# Altium schematic symbol library 2021-03-09_20-08-38.SchLib: 2 symbols
Pins are listed as number, name and electrical type; pins without a type are passive.

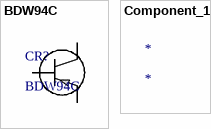
[diagram p0: symbols BDW94C to Component_1]

## BDW94C
designator CR?
No Description Available; Vendor: STMicroelectronics; Built_By: EMA_UL_Team; SourceLibrary: Updates_to_database_2020-11-02; Type: DEV; Manufacturer_Part_Number: BDW94C; Copyright: Copyright (C) 2018 Accelerated Designs. All rights reserved; RefDes: RefDes
footprint TO-220_STM
pins: 1 B, 2 C, 3 E

## Component_1
designator *